# EAGLE library part ADG5412 (library analog-devices-jqi)
ADG5412,10 Ohm TTL-controlled SPST switch, 4 channels
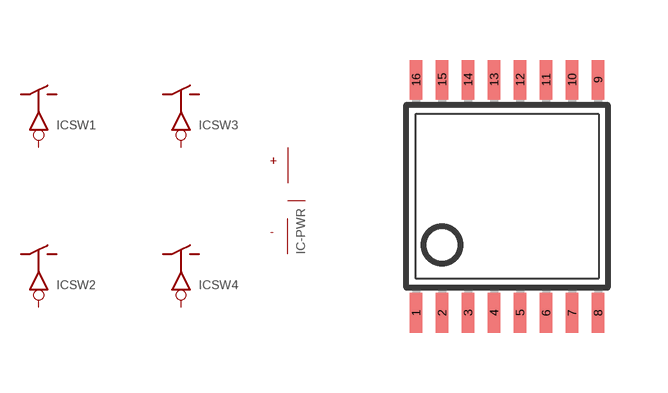
[diagram p4: symbol with the pads of TSSOP16; footprint TSSOP16]

Designator prefix IC; gates -PWR=ADG5412-PWR SW1=ADG5412-SW SW2=ADG5412-SW SW3=ADG5412-SW SW4=ADG5412-SW

## ADG5412BRUZ  [TSSOP16]
1  SW1:IN  in
2  SW1:D
3  SW1:S
4  -PWR:V-
5  -PWR:VGND
6  SW4:S
7  SW4:D
8  SW4:IN  in
9  SW3:IN  in
10  SW3:D
11  SW3:S
13  -PWR:V+
14  SW2:S
15  SW2:D
16  SW2:IN  in

## Footprint TSSOP16 (pad centres in mm)
Thin Shrink Small Outline Plastic 16 MAX3223-MAX3243.pdf
smd 0.305 x 0.991: 1 -2.275,-2.918; 2 -1.625,-2.918; 3 -0.975,-2.918; 4 -0.325,-2.918; 5 0.325,-2.918; 6 0.975,-2.918; 7 1.625,-2.918; 8 2.275,-2.918; 9 2.275,2.918; 10 1.625,2.918; 11 0.975,2.918; 12 0.325,2.918; 13 -0.325,2.918; 14 -0.975,2.918; 15 -1.625,2.918; 16 -2.275,2.918